# EAGLE library part ADPS_9008_020 (library HMD_Library)
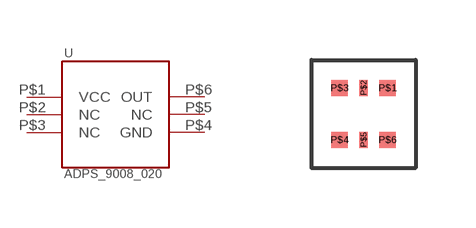
[diagram p1: symbol with the pads of ADPS_FP; footprint ADPS_FP]

Designator prefix -

## ADPS_9008_020  [ADPS_FP]
P$1  VCC  pwr
P$2  NC
P$3  NC
P$4  GND  pwr
P$5  NC
P$6  OUT  out

## Footprint ADPS_FP (pad centres in mm)
smd 0.4 x 0.4: P$1 0.6,0.65; P$3 -0.6,0.65; P$4 -0.6,-0.65; P$6 0.6,-0.65
smd 0.2 x 0.4: P$2 0,0.65; P$5 0,-0.65